# EAGLE library part 4002XLG120 (library XILINX)
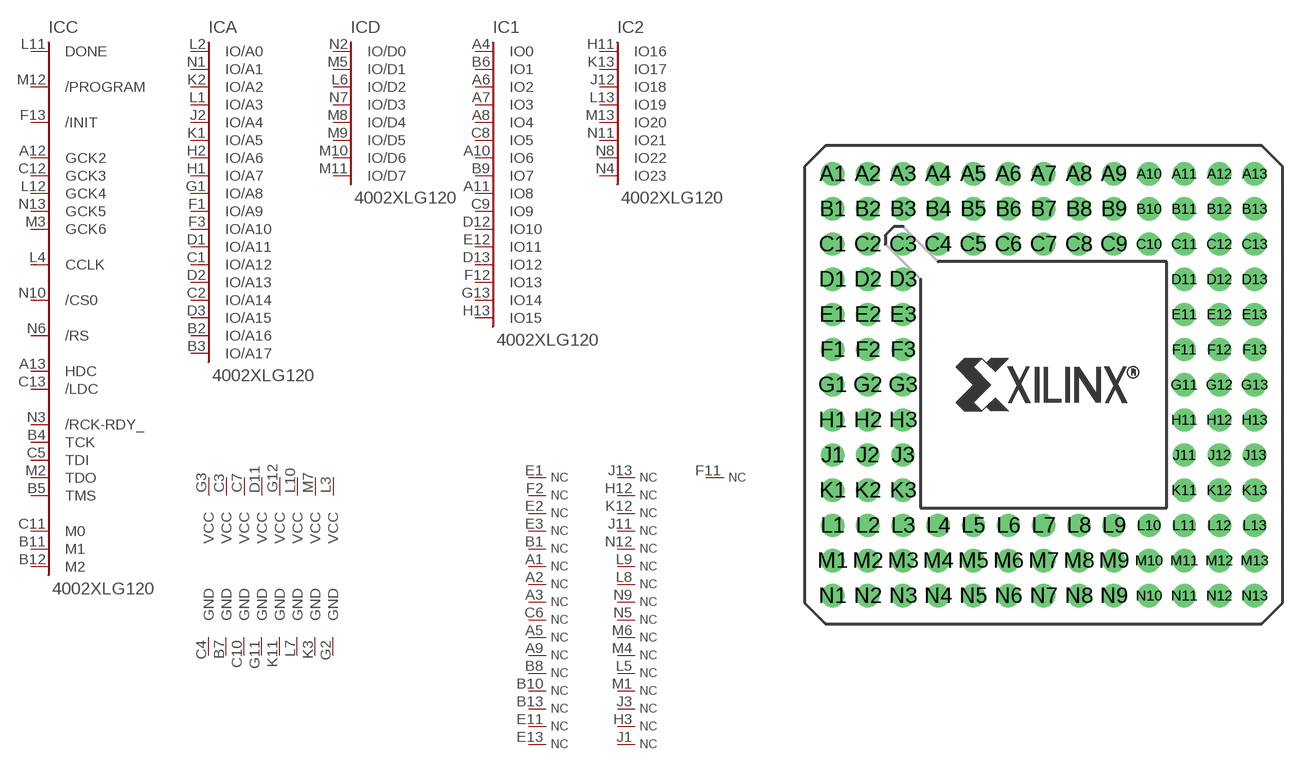
[diagram p12: symbol with the pads of PGA120; footprint PGA120]

Designator prefix IC; gates C=XC4-C-84 A=XC4-A17 D=XC4-D 1=XC4-IO16 2=XC4-IO23 V1=VCC V2=VCC V3=VCC V4=VCC V5=VCC V6=VCC V7=VCC V8=VCC G1=GND G2=GND G3=GND G4=GND G5=GND G6=GND G7=GND G8=GND N1=NC N2=NC N3=NC N4=NC N5=NC N6=NC N7=NC N8=NC N9=NC N10=NC N11=NC N12=NC N13=NC N14=NC N15=NC N16=NC N17=NC N18=NC N19=NC N20=NC N21=NC N22=NC N23=NC N24=NC N25=NC N26=NC N27=NC N28=NC N29=NC N30=NC N31=NC N32=NC N33=NC

## 4002XLG120  [PGA120]
A1  N6:NC  nc
A2  N7:NC  nc
A3  N8:NC  nc
A4  1:IO0
A5  N10:NC  nc
A6  1:IO2
A7  1:IO3
A8  1:IO4
A9  N11:NC  nc
A10  1:IO6
A11  1:IO8
A12  C:GCK2
A13  C:HDC
B1  N5:NC  nc
B2  A:IO/A16
B3  A:IO/A17
B4  C:TCK
B5  C:TMS
B6  1:IO1
B7  G2:GND  pwr
B8  N12:NC  nc
B9  1:IO7
B10  N13:NC  nc
B11  C:M1  out
B12  C:M2  in
B13  N14:NC  nc
C1  A:IO/A12
C2  A:IO/A14
C3  V2:VCC  pwr
C4  G1:GND  pwr
C5  C:TDI
C6  N9:NC  nc
C7  V3:VCC  pwr
C8  1:IO5
C9  1:IO9
C10  G3:GND  pwr
C11  C:M0  in
C12  C:GCK3
C13  C:/LDC
D1  A:IO/A11
D2  A:IO/A13
D3  A:IO/A15
D11  V4:VCC  pwr
D12  1:IO10
D13  1:IO12
E1  N1:NC  nc
E2  N3:NC  nc
E3  N4:NC  nc
E11  N15:NC  nc
E12  1:IO11
E13  N16:NC  nc
F1  A:IO/A9
F2  N2:NC  nc
F3  A:IO/A10
F11  N33:NC  nc
F12  1:IO13
F13  C:/INIT
G1  A:IO/A8
G2  G8:GND  pwr
G3  V1:VCC  pwr
G11  G4:GND  pwr
G12  V5:VCC  pwr
G13  1:IO14
H1  A:IO/A7
H2  A:IO/A6
H3  N31:NC  nc
H11  2:IO16
H12  N18:NC  nc
H13  1:IO15
J1  N32:NC  nc
J2  A:IO/A4
J3  N30:NC  nc
J11  N20:NC  nc
J12  2:IO18
J13  N17:NC  nc
K1  A:IO/A5
K2  A:IO/A2
K3  G7:GND  pwr
K11  G5:GND  pwr
K12  N19:NC  nc
K13  2:IO17
L1  A:IO/A3
L2  A:IO/A0
L3  V8:VCC  pwr
L4  C:CCLK
L5  N28:NC  nc
L6  D:IO/D2
L7  G6:GND  pwr
L8  N23:NC  nc
L9  N22:NC  nc
L10  V6:VCC  pwr
L11  C:DONE
L12  C:GCK4
L13  2:IO19
M1  N29:NC  nc
M2  C:TDO
M3  C:GCK6
M4  N27:NC  nc
M5  D:IO/D1
M6  N26:NC  nc
M7  V7:VCC  pwr
M8  D:IO/D4
M9  D:IO/D5
M10  D:IO/D6
M11  D:IO/D7
M12  C:/PROGRAM
M13  2:IO20
N1  A:IO/A1
N2  D:IO/D0
N3  C:/RCK-RDY_
N4  2:IO23
N5  N25:NC  nc
N6  C:/RS
N7  D:IO/D3
N8  2:IO22
N9  N24:NC  nc
N10  C:/CS0
N11  2:IO21
N12  N21:NC  nc
N13  C:GCK5

## Footprint PGA120 (pad centres in mm)
drill 0.889 pad 1.676: A1 -15.24,15.24; A2 -12.7,15.24; A3 -10.16,15.24; A4 -7.62,15.24; A5 -5.08,15.24; A6 -2.54,15.24; A7 0,15.24; A8 2.54,15.24; A9 5.08,15.24; A10 7.62,15.24; A11 10.16,15.24; A12 12.7,15.24; A13 15.24,15.24; B1 -15.24,12.7; B2 -12.7,12.7; B3 -10.16,12.7; B4 -7.62,12.7; B5 -5.08,12.7; B6 -2.54,12.7; B7 0,12.7; B8 2.54,12.7; B9 5.08,12.7; B10 7.62,12.7; B11 10.16,12.7; B12 12.7,12.7; B13 15.24,12.7; C1 -15.24,10.16; C2 -12.7,10.16; C3 -10.16,10.16; C4 -7.62,10.16; C5 -5.08,10.16; C6 -2.54,10.16; C7 0,10.16; C8 2.54,10.16; C9 5.08,10.16; C10 7.62,10.16; C11 10.16,10.16; C12 12.7,10.16; C13 15.24,10.16; D1 -15.24,7.62; D2 -12.7,7.62; D3 -10.16,7.62; D11 10.16,7.62; D12 12.7,7.62; D13 15.24,7.62; E1 -15.24,5.08; E2 -12.7,5.08; E3 -10.16,5.08; E11 10.16,5.08; E12 12.7,5.08; E13 15.24,5.08; F1 -15.24,2.54; F2 -12.7,2.54; F3 -10.16,2.54; F11 10.16,2.54; F12 12.7,2.54; F13 15.24,2.54; G1 -15.24,0; G2 -12.7,0; G3 -10.16,0; G11 10.16,0; G12 12.7,0; G13 15.24,0; H1 -15.24,-2.54; H2 -12.7,-2.54; H3 -10.16,-2.54; H11 10.16,-2.54; H12 12.7,-2.54; H13 15.24,-2.54; J1 -15.24,-5.08; J2 -12.7,-5.08; J3 -10.16,-5.08; J11 10.16,-5.08; J12 12.7,-5.08; J13 15.24,-5.08; K1 -15.24,-7.62; K2 -12.7,-7.62; K3 -10.16,-7.62; K11 10.16,-7.62; K12 12.7,-7.62; K13 15.24,-7.62; L1 -15.24,-10.16; L2 -12.7,-10.16; L3 -10.16,-10.16; L4 -7.62,-10.16; L5 -5.08,-10.16; L6 -2.54,-10.16; L7 0,-10.16; L8 2.54,-10.16; L9 5.08,-10.16; L10 7.62,-10.16; L11 10.16,-10.16; L12 12.7,-10.16; L13 15.24,-10.16; M1 -15.24,-12.7; M2 -12.7,-12.7; M3 -10.16,-12.7; M4 -7.62,-12.7; M5 -5.08,-12.7; M6 -2.54,-12.7; M7 0,-12.7; M8 2.54,-12.7; M9 5.08,-12.7; M10 7.62,-12.7; M11 10.16,-12.7; M12 12.7,-12.7; M13 15.24,-12.7; N1 -15.24,-15.24; N2 -12.7,-15.24; N3 -10.16,-15.24; N4 -7.62,-15.24; N5 -5.08,-15.24; N6 -2.54,-15.24; N7 0,-15.24; N8 2.54,-15.24; N9 5.08,-15.24; N10 7.62,-15.24; N11 10.16,-15.24; N12 12.7,-15.24; N13 15.24,-15.24